# EAGLE library part M41T65Q6F (library circuit_tree)
IC
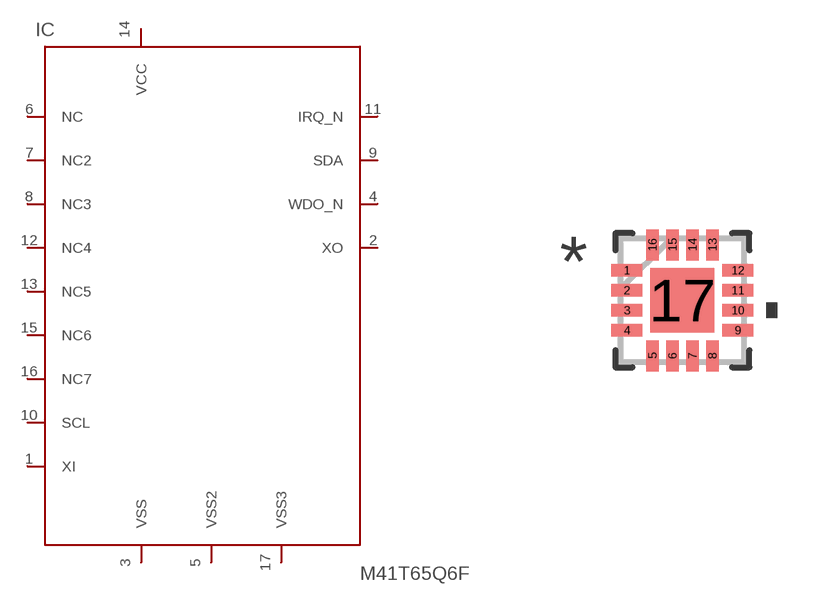
[diagram p2: symbol with the pads of M41T65_QFN-16; footprint M41T65_QFN-16]

Designator prefix IC

## M41T65Q6F  [M41T65_QFN-16]
1  XI  pas
2  XO  pas
3  VSS  pas
4  WDO_N  pas
5  VSS2  pas
6  NC  pas
7  NC2  pas
8  NC3  pas
9  SDA  pas
10  SCL  pas
11  IRQ_N  pas
12  NC4  pas
13  NC5  pas
14  VCC  pas
15  NC6  pas
16  NC7  pas
17  VSS3  pas

## Footprint M41T65_QFN-16 (pad centres in mm)
smd 0.775 x 0.305: 1 -1.387,0.75; 2 -1.387,0.25; 3 -1.387,-0.25; 4 -1.387,-0.75; 9 1.387,-0.75; 10 1.387,-0.25; 11 1.387,0.25; 12 1.387,0.75
smd 0.305 x 0.775: 5 -0.75,-1.387; 6 -0.25,-1.387; 7 0.25,-1.387; 8 0.75,-1.387; 13 0.75,1.387; 14 0.25,1.387; 15 -0.25,1.387; 16 -0.75,1.387
smd 1.6 x 1.6: 17 0,0